# EAGLE library part 50223-020 (library con-aces-50223-series)
ACES CONNECTORS 50223 SERIES ACES Connecors 50223
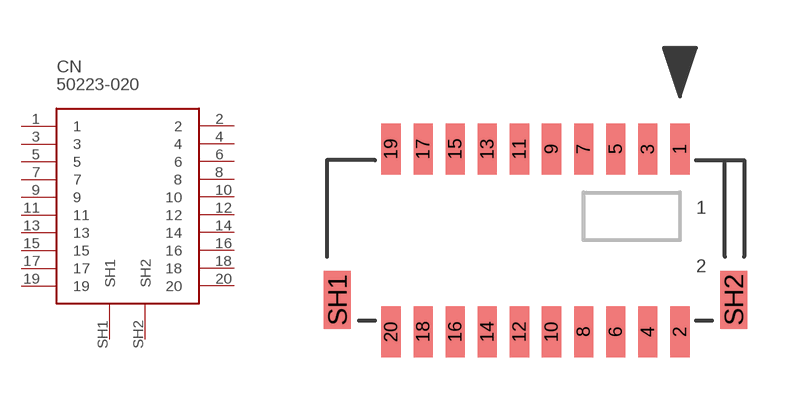
[diagram p5: symbol with the pads of 50223-020; footprint 50223-020]

Designator prefix CN

## 50223-020  [50223-020]
1  1
2  2
3  3
4  4
5  5
6  6
7  7
8  8
9  9
10  10
11  11
12  12
13  13
14  14
15  15
16  16
17  17
18  18
19  19
20  20
SH1  SH1
SH2  SH2

## Footprint 50223-020 (pad centres in mm)
smd 0.6 x 1.6: 1 4.5,2.85; 2 4.5,-2.85; 3 3.5,2.85; 4 3.5,-2.85; 5 2.5,2.85; 6 2.5,-2.85; 7 1.5,2.85; 8 1.5,-2.85; 9 0.5,2.85; 10 0.5,-2.85; 11 -0.5,2.85; 12 -0.5,-2.85; 13 -1.5,2.85; 14 -1.5,-2.85; 15 -2.5,2.85; 16 -2.5,-2.85; 17 -3.5,2.85; 18 -3.5,-2.85; 19 -4.5,2.85; 20 -4.5,-2.85
smd 0.85 x 1.8: SH1 -6.175,-1.85; SH2 6.175,-1.85